# Altium footprint library SparkFun-Sensors.PCBLIB: 104 footprints (part 4 of 7)
Each footprint in its own frame and in the unit in brackets; x right, y up, seen from the top. Pads: shape width x height; smd on the part's side, far side on the other; paste and mask are expansions set on the pad; w line width, h text height; cw(c..) or ccw(c..) is an arc to the next point about the centre after c.
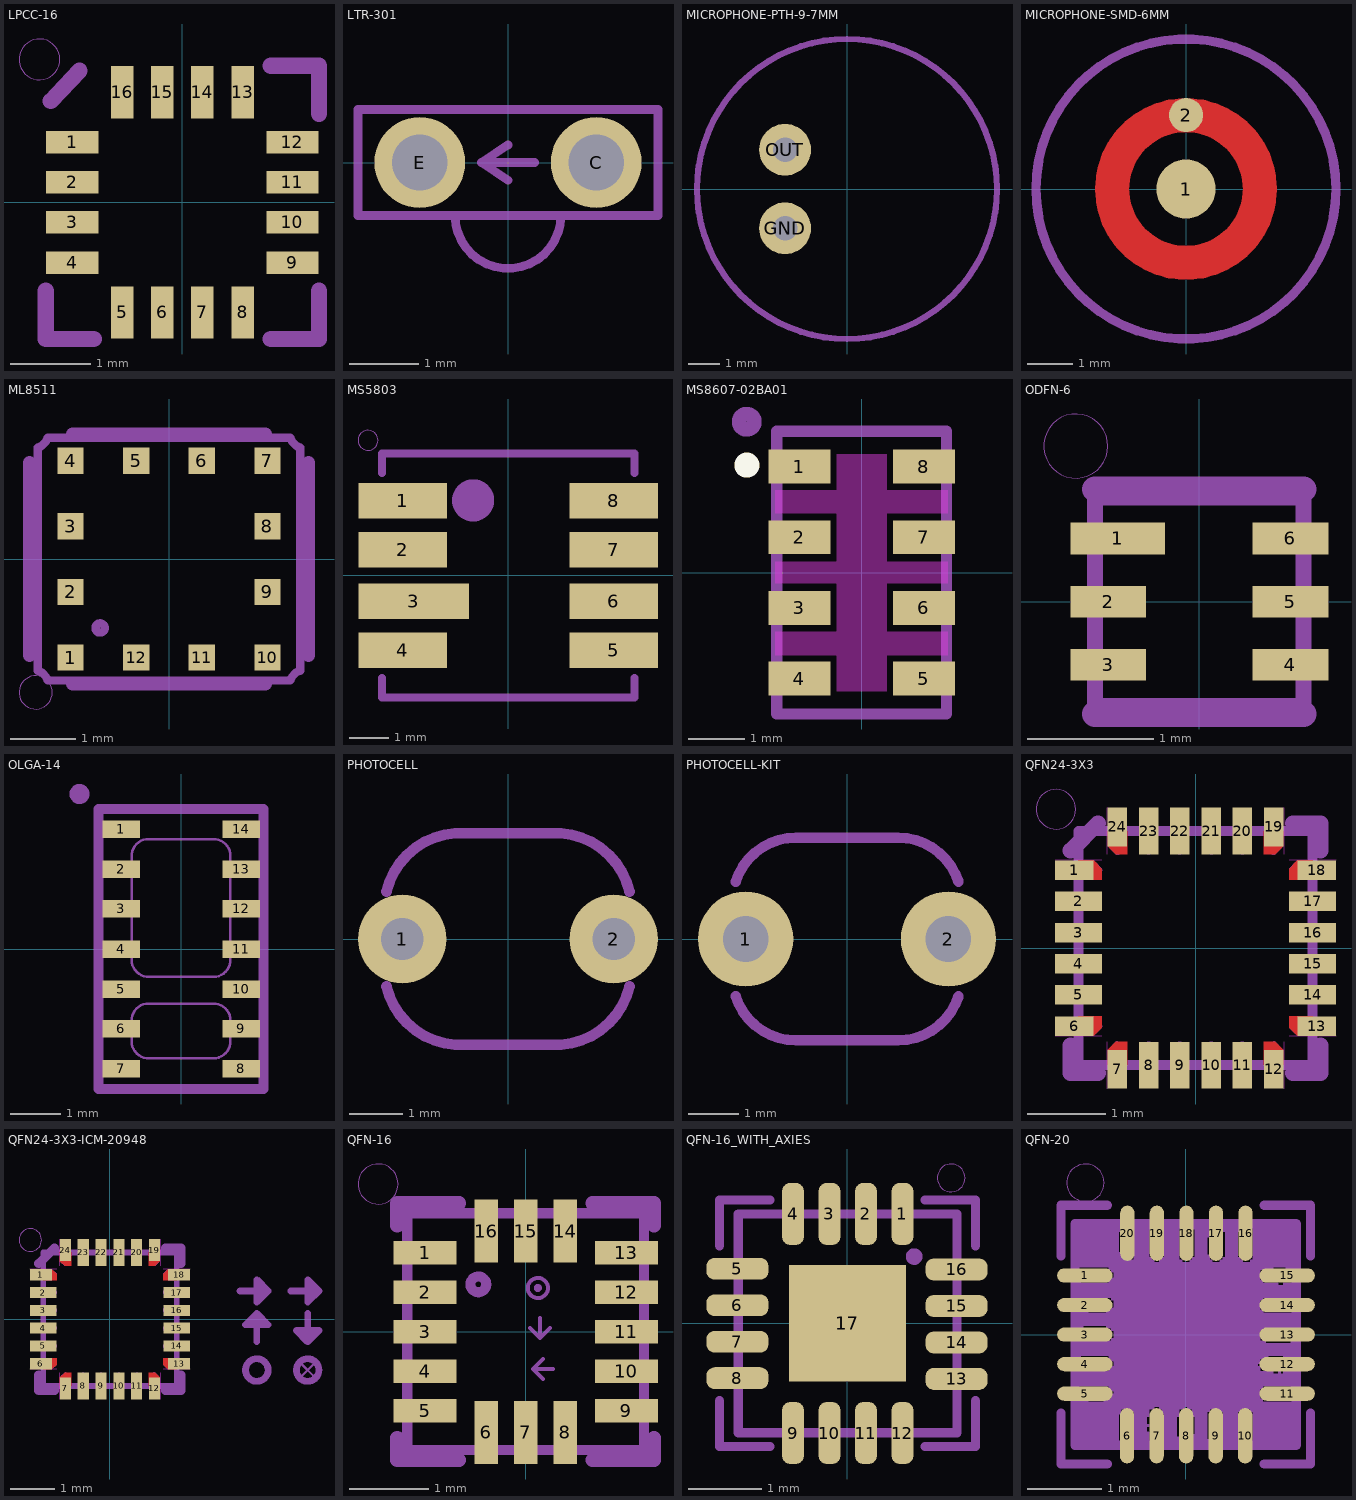
[diagram p3: the footprints below, top view; thin cyan lines are the x and y axes]

## LPCC-16 [mm]
pads (16):
  rect 0.65x0.28 smd: 1(-1.37,0.75) 2(-1.37,0.25) 3(-1.37,-0.25) 4(-1.37,-0.75) 9(1.37,-0.75) 10(1.37,-0.25) 11(1.37,0.25) 12(1.37,0.75)
  rect 0.28x0.65 smd: 5(-0.75,-1.37) 6(-0.25,-1.37) 7(0.25,-1.37) 8(0.75,-1.37) 13(0.75,1.37) 14(0.25,1.37) 15(-0.25,1.37) 16(-0.75,1.37)
tPlace:
  circle w0: c-1.778,1.778 r0.254
  lines w0.203: -1.7,-1.1 -1.7,-1.7 -1.1,-1.7 ; -1.635,1.26 -1.28,1.635 ; 1.1,-1.7 1.7,-1.7 1.7,-1.1 ; 1.1,1.7 1.7,1.7 1.7,1.1

## LTR-301 [mil]
pads (2):
  round 51.5 hole 31.5: C(50,0) E(-50,0)
tPlace:
  lines w5: 0,-10 -15,0 ; 0,10 -15,0 ; 15,0 -15,0 ; -30,-30 30,-30 ; -30,-30 -85,-30 -85,30 85,30 85,-30 30,-30 ; -30,-30 ccw(c0,-30) 30,-30

## MICROPHONE-PTH-9-7MM [mil]
pads (2):
  round 66 hole 31.5: GND(-78.74,-50) OUT(-78.74,50)
tPlace:
  circle w8: c0,0 r190.94
  text "-" at -54.57,-115.35 h77.5
bPlace:
  text "-" at -20.24,-115.35 h77.5

## MICROPHONE-SMD-6MM [mm]
pads (2):
  rrect100% 1.3x1.3 smd paste+0: 1(0,0)
  rrect100% 0.75x0.75 smd paste+0: 2(0.003,1.626)
Top:
  circle w0.75: c0,0 r1.625
Top Paste:
  circle w0.305: c0,0 r1.632
  circle w0.406: c0,0 r0.153
Top Solder:
  circle w0.965: c0,0 r1.627
tPlace:
  circle w0.203: c0,0 r3.3

## ML8511 [mm]
pads (12):
  rect 0.4x0.4 smd: 1(-1.5,-1.5) 2(-1.5,-0.5) 3(-1.5,0.5) 4(-1.5,1.5) 5(-0.5,1.5) 6(0.5,1.5) 7(1.5,1.5) 8(1.5,0.5) 9(1.5,-0.5) 10(1.5,-1.5) 11(0.5,-1.5) 12(-0.5,-1.5)
Top Solder:
  circle w0.2: c-1.05,-1.05 r0.05
tDocu:
  circle w0.127: c-1.05,-1.05 r0.07
  lines w0.127: -2,-1.7 -2,1.7 ccw(c-2.063,1.913) -1.85,1.85 1.85,1.85 ccw(c2.063,1.913) 2,1.7 2,-1.7 ccw(c2.063,-1.913) 1.85,-1.85 -1.85,-1.85 ccw(c-2.063,-1.913) -2,-1.7
tPlace:
  circle w0: c-2.032,-2.032 r0.254
  lines w0.203: -2.127,-1.47 -2.127,1.47 ; -1.47,-1.9 1.47,-1.9 ; -1.47,1.9 1.47,1.9 ; 2.127,-1.47 2.127,1.47

## MS5803 [mm]
pads (8):
  rect 2.25x0.9 smd: 1(-2.675,1.9) 2(-2.675,0.65) 4(-2.675,-1.9) 5(2.675,-1.9) 6(2.675,-0.65) 7(2.675,0.65) 8(2.675,1.9)
  rect 2.8x0.9 smd: 3(-2.4,-0.65)
tDocu:
  circle w0.813: c-0.889,1.905 r0.127
tPlace:
  circle w0: c-3.556,3.429 r0.254
  lines w0.203: -3.2,-2.6 -3.2,-3.1 3.2,-3.1 3.2,-2.6 ; -3.2,2.6 -3.2,3.1 3.2,3.1 3.2,2.6

## MS8607-02BA01 [mm]
pads (8):
  rect 1.1x0.6 smd: 1(-1.1,1.875) 2(-1.1,0.625) 3(-1.1,-0.625) 4(-1.1,-1.875) 5(1.1,-1.875) 6(1.1,-0.625) 7(1.1,0.625) 8(1.1,1.875)
Top keep-out:
  region: -0.445,2.095 0.445,2.095 0.445,1.46 1.524,1.46 1.524,1.048 0.445,1.048 0.445,0.191 1.524,0.191 1.524,-0.191 0.445,-0.191 0.445,-1.048 1.524,-1.048 1.524,-1.46 0.445,-1.46 0.445,-2.095 -0.445,-2.095 -0.445,-1.46 -1.524,-1.46 -1.524,-1.048 -0.445,-1.048 -0.445,-0.191 -1.524,-0.191 -1.524,0.191 -0.445,0.191 -0.445,1.048 -1.524,1.048 -1.524,1.46 -0.445,1.46
Top Overlay:
  circle w0.406: c-2.03,1.9 r0.018
tDocu:
  lines w0.2: -1.5,-2.5 1.5,-2.5 1.5,2.5 -1.5,2.5 -1.5,-2.5
tPlace:
  circle w0.254: c-2.032,2.667 r0.137
  lines w0.2: -1.5,-2.5 1.5,-2.5 ; -1.5,2.5 1.5,2.5

## ODFN-6 [mm]
pads (6):
  rect 0.75x0.25 smd: 1(-0.645,0.5)
  rect 0.6x0.25 smd: 2(-0.72,0) 3(-0.72,-0.5) 4(0.72,-0.5) 5(0.72,0) 6(0.72,0.5)
tDocu:
  lines w0.127: -0.825,-0.825 0.825,-0.825 0.825,0.825 -0.825,0.825 -0.825,-0.825
tPlace:
  circle w0: c-0.977,1.231 r0.254
  lines w0.203: -0.825,-0.888 0.825,-0.888 ; -0.825,0.888 0.825,0.888

## OLGA-14 [mm]
pads (14):
  rect 0.75x0.35 smd: 1(-1.2,2.4) 2(-1.2,1.6) 3(-1.2,0.8) 4(-1.2,0) 5(-1.2,-0.8) 6(-1.2,-1.6) 7(-1.2,-2.4) 8(1.2,-2.4) 9(1.2,-1.6) 10(1.2,-0.8) 11(1.2,0) 12(1.2,0.8) 13(1.2,1.6) 14(1.2,2.4)
tDocu:
  lines w0.05: -0.985,-1.9 -0.985,-1.39 cw(c-0.645,-1.431) -0.7,-1.093 0.69,-1.093 cw(c0.646,-1.433) 0.985,-1.38 0.985,-1.89 cw(c0.647,-1.846) 0.7,-2.183 -0.69,-2.183 cw(c-0.649,-1.845) -0.985,-1.9 ; -0.985,-0.27 -0.985,1.9 cw(c-0.644,1.859) -0.7,2.197 0.69,2.197 cw(c0.646,1.857) 0.985,1.91 0.985,-0.26 cw(c0.647,-0.217) 0.7,-0.553 -0.69,-0.553 cw(c-0.649,-0.215) -0.985,-0.27
tPlace:
  circle w0.2: c-2.032,3.1 r0.1
  lines w0.203: -1.65,-2.8 1.65,-2.8 1.65,2.8 -1.65,2.8 -1.65,-2.8

## PHOTOCELL [mil]
pads (2):
  round 66 hole 31.5: 1(-78.74,0) 2(78.74,0)
tPlace:
  lines w8: -90.55,-35.43 ccw(c-35.48,-22.25) -39.37,-78.74 39.37,-78.74 ccw(c35.48,-22.24) 90.55,-35.43 ; -90.55,35.43 cw(c-35.48,22.24) -39.37,78.74 39.37,78.74 cw(c35.48,22.25) 90.55,35.43

## PHOTOCELL-KIT [mil]
pads (2):
  round 74 hole 35.43: 1(-78.74,0) 2(78.74,0)
Top Solder:
  region: -79,-17.5 -82.4,-17.58 -88.75,-15.12 -93.67,-10.43 -96.42,-4.2 -96.5,-0.8 -96.59,2.77 -94.02,9.44 -89.1,14.61 -82.57,17.51 -79,17.6 -75.48,17.54 -69.02,14.74 -64.12,9.67 -61.54,3.12 -61.6,-0.4 -61.63,-3.83 -64.31,-10.15 -69.21,-14.96 -75.57,-17.53 -79,-17.5
  region: 79,-17.5 75.6,-17.58 69.25,-15.12 64.33,-10.43 61.58,-4.2 61.5,-0.8 61.41,2.77 63.98,9.44 68.9,14.61 75.43,17.51 79,17.6 82.52,17.54 88.98,14.74 93.88,9.67 96.46,3.12 96.4,-0.4 96.37,-3.83 93.69,-10.15 88.79,-14.96 82.43,-17.53 79,-17.5
Bottom Solder:
  region: -78.9,-37.5 -82.55,-37.55 -89.74,-36.22 -96.53,-33.51 -102.66,-29.54 -107.9,-24.44 -112.04,-18.42 -114.93,-11.7 -116.45,-4.55 -116.5,-0.9 -116.54,2.84 -115.17,10.19 -112.4,17.13 -108.32,23.39 -103.09,28.74 -96.93,32.97 -90.05,35.91 -82.74,37.46 -79,37.5 -75.26,37.45 -67.95,35.88 -61.09,32.92 -54.93,28.68 -49.72,23.31 -45.66,17.04 -42.9,10.09 -41.55,2.74 -41.6,-1 -41.64,-4.63 -43.13,-11.75 -45.99,-18.43 -50.09,-24.44 -55.29,-29.52 -61.37,-33.49 -68.12,-36.2 -75.27,-37.54 -78.9,-37.5
  region: 79.1,-37.5 75.45,-37.55 68.26,-36.22 61.47,-33.51 55.34,-29.54 50.1,-24.44 45.96,-18.42 43.07,-11.7 41.55,-4.55 41.5,-0.9 41.46,2.84 42.83,10.19 45.6,17.13 49.68,23.39 54.91,28.74 61.07,32.97 67.95,35.91 75.26,37.46 79,37.5 82.74,37.45 90.05,35.88 96.91,32.92 103.07,28.68 108.28,23.31 112.34,17.04 115.1,10.09 116.45,2.74 116.4,-1 116.36,-4.63 114.87,-11.75 112.01,-18.43 107.91,-24.44 102.71,-29.52 96.63,-33.49 89.88,-36.2 82.73,-37.54 79.1,-37.5
tPlace:
  lines w8: -86.55,-44.43 ccw(c-39.61,-29.48) -39.37,-78.74 39.37,-78.74 ccw(c39.61,-29.48) 86.55,-44.43 ; -86.55,44.43 cw(c-39.61,29.48) -39.37,78.74 39.37,78.74 cw(c39.61,29.48) 86.55,44.43

## QFN24-3X3 [mm]
pads (24):
  rect 0.495x0.25 smd paste+0: 1(-1.552,1) 6(-1.552,-1) 13(1.552,-1) 18(1.552,1)
  rect 0.6x0.25 smd paste+0: 2(-1.5,0.6) 3(-1.5,0.2) 4(-1.5,-0.2) 5(-1.5,-0.6) 14(1.5,-0.6) 15(1.5,-0.2) 16(1.5,0.2) 17(1.5,0.6)
  rect 0.25x0.495 smd paste+0: 7(-1,-1.552) 12(1,-1.552) 19(1,1.552) 24(-1,1.552)
  rect 0.25x0.6 smd paste+0: 8(-0.6,-1.5) 9(-0.2,-1.5) 10(0.2,-1.5) 11(0.6,-1.5) 20(0.6,1.5) 21(0.2,1.5) 22(-0.2,1.5) 23(-0.6,1.5)
Top:
  region: -1.5,1.125 -1.305,1.125 -1.2,1.02 -1.2,0.875 -1.5,0.875
  region: 1.125,-1.5 1.125,-1.305 1.02,-1.2 0.875,-1.2 0.875,-1.5
  region: -1.125,-1.5 -1.125,-1.305 -1.02,-1.2 -0.875,-1.2 -0.875,-1.5
  region: -1.5,-1.125 -1.305,-1.125 -1.2,-1.02 -1.2,-0.875 -1.5,-0.875
  region: 1.5,-1.125 1.305,-1.125 1.2,-1.02 1.2,-0.875 1.5,-0.875
  region: 1.5,1.125 1.305,1.125 1.2,1.02 1.2,0.875 1.5,0.875
  region: 1.125,1.5 1.125,1.305 1.02,1.2 0.875,1.2 0.875,1.5
  region: -1.125,1.5 -1.125,1.305 -1.02,1.2 -0.875,1.2 -0.875,1.5
Top keep-out:
  lines w0: -1.8,-1.13 -1.2,-1.13 ; -1.8,1.13 -1.2,1.13 ; -1.13,-1.8 -1.13,-1.2 ; -1.13,1.2 -1.13,1.8 ; 1.13,-1.8 1.13,-1.2 ; 1.13,1.2 1.13,1.8 ; 1.2,-1.13 1.8,-1.13 ; 1.2,1.13 1.8,1.13
Top Paste:
  region: -1.725,0.475 -1.725,0.725 -1.275,0.725 -1.275,0.475
  region: -1.725,0.875 -1.725,1.125 -1.275,1.125 -1.275,0.875
  region: -1.725,0.075 -1.725,0.325 -1.275,0.325 -1.275,0.075
  region: -1.725,-0.325 -1.725,-0.075 -1.275,-0.075 -1.275,-0.325
  region: -1.725,-0.725 -1.725,-0.475 -1.275,-0.475 -1.275,-0.725
  region: -1.725,-1.125 -1.725,-0.875 -1.275,-0.875 -1.275,-1.125
  region: -0.875,-1.725 -1.125,-1.725 -1.125,-1.275 -0.875,-1.275
  region: -0.475,-1.725 -0.725,-1.725 -0.725,-1.275 -0.475,-1.275
  region: -0.075,-1.725 -0.325,-1.725 -0.325,-1.275 -0.075,-1.275
  region: 0.325,-1.725 0.075,-1.725 0.075,-1.275 0.325,-1.275
  region: 0.725,-1.725 0.475,-1.725 0.475,-1.275 0.725,-1.275
  region: 1.125,-1.725 0.875,-1.725 0.875,-1.275 1.125,-1.275
  region: 1.725,-0.875 1.725,-1.125 1.275,-1.125 1.275,-0.875
  region: 1.725,-0.475 1.725,-0.725 1.275,-0.725 1.275,-0.475
  region: 1.725,0.325 1.725,0.075 1.275,0.075 1.275,0.325
  region: 1.725,-0.075 1.725,-0.325 1.275,-0.325 1.275,-0.075
  region: 1.725,0.725 1.725,0.475 1.275,0.475 1.275,0.725
  region: 1.725,1.125 1.725,0.875 1.275,0.875 1.275,1.125
  region: 0.875,1.725 1.125,1.725 1.125,1.275 0.875,1.275
  region: 0.475,1.725 0.725,1.725 0.725,1.275 0.475,1.275
  region: 0.075,1.725 0.325,1.725 0.325,1.275 0.075,1.275
  region: -0.325,1.725 -0.075,1.725 -0.075,1.275 -0.325,1.275
  region: -0.725,1.725 -0.475,1.725 -0.475,1.275 -0.725,1.275
  region: -1.125,1.725 -0.875,1.725 -0.875,1.275 -1.125,1.275
Top Solder:
  region: -1.203,0.773 -1.203,1.226 -1.099,1.226 -1.099,0.773
  region: -0.773,-1.203 -1.226,-1.203 -1.226,-1.099 -0.773,-1.099
  region: 1.203,-0.773 1.203,-1.226 1.099,-1.226 1.099,-0.773
  region: 0.773,1.203 1.226,1.203 1.226,1.099 0.773,1.099
  region: -1.226,1.203 -0.773,1.203 -0.773,1.099 -1.226,1.099
  region: -1.203,-1.226 -1.203,-0.773 -1.099,-0.773 -1.099,-1.226
  region: 1.226,-1.203 0.773,-1.203 0.773,-1.099 1.226,-1.099
  region: 1.203,1.226 1.203,0.773 1.099,0.773 1.099,1.226
tDocu:
  drawing of 28 lines, arcs and shapes, not listed
tPlace:
  circle w0: c-1.79,1.78 r0.254
  lines w0.203: -1.6,-1.25 -1.6,-1.6 -1.25,-1.6 ; -1.6,1.25 -1.25,1.6 ; 1.25,-1.6 1.6,-1.6 1.6,-1.25 ; 1.25,1.6 1.6,1.6 1.6,1.25

## QFN24-3X3-ICM-20948 [mm]
pads (24):
  rect 0.495x0.25 smd paste+0: 1(-1.552,1) 6(-1.552,-1) 13(1.552,-1) 18(1.552,1)
  rect 0.6x0.25 smd paste+0: 2(-1.5,0.6) 3(-1.5,0.2) 4(-1.5,-0.2) 5(-1.5,-0.6) 14(1.5,-0.6) 15(1.5,-0.2) 16(1.5,0.2) 17(1.5,0.6)
  rect 0.25x0.495 smd paste+0: 7(-1,-1.552) 12(1,-1.552) 19(1,1.552) 24(-1,1.552)
  rect 0.25x0.6 smd paste+0: 8(-0.6,-1.5) 9(-0.2,-1.5) 10(0.2,-1.5) 11(0.6,-1.5) 20(0.6,1.5) 21(0.2,1.5) 22(-0.2,1.5) 23(-0.6,1.5)
Top:
  region: -1.5,1.125 -1.305,1.125 -1.2,1.02 -1.2,0.875 -1.5,0.875
  region: 1.125,-1.5 1.125,-1.305 1.02,-1.2 0.875,-1.2 0.875,-1.5
  region: -1.125,-1.5 -1.125,-1.305 -1.02,-1.2 -0.875,-1.2 -0.875,-1.5
  region: -1.5,-1.125 -1.305,-1.125 -1.2,-1.02 -1.2,-0.875 -1.5,-0.875
  region: 1.5,-1.125 1.305,-1.125 1.2,-1.02 1.2,-0.875 1.5,-0.875
  region: 1.5,1.125 1.305,1.125 1.2,1.02 1.2,0.875 1.5,0.875
  region: 1.125,1.5 1.125,1.305 1.02,1.2 0.875,1.2 0.875,1.5
  region: -1.125,1.5 -1.125,1.305 -1.02,1.2 -0.875,1.2 -0.875,1.5
Top keep-out:
  lines w0: -1.8,-1.13 -1.2,-1.13 ; -1.8,1.13 -1.2,1.13 ; -1.13,-1.8 -1.13,-1.2 ; -1.13,1.2 -1.13,1.8 ; 1.13,-1.8 1.13,-1.2 ; 1.13,1.2 1.13,1.8 ; 1.2,-1.13 1.8,-1.13 ; 1.2,1.13 1.8,1.13
Top Paste:
  region: -1.725,0.475 -1.725,0.725 -1.275,0.725 -1.275,0.475
  region: -1.725,0.875 -1.725,1.125 -1.275,1.125 -1.275,0.875
  region: -1.725,0.075 -1.725,0.325 -1.275,0.325 -1.275,0.075
  region: -1.725,-0.325 -1.725,-0.075 -1.275,-0.075 -1.275,-0.325
  region: -1.725,-0.725 -1.725,-0.475 -1.275,-0.475 -1.275,-0.725
  region: -1.725,-1.125 -1.725,-0.875 -1.275,-0.875 -1.275,-1.125
  region: -0.875,-1.725 -1.125,-1.725 -1.125,-1.275 -0.875,-1.275
  region: -0.475,-1.725 -0.725,-1.725 -0.725,-1.275 -0.475,-1.275
  region: -0.075,-1.725 -0.325,-1.725 -0.325,-1.275 -0.075,-1.275
  region: 0.325,-1.725 0.075,-1.725 0.075,-1.275 0.325,-1.275
  region: 0.725,-1.725 0.475,-1.725 0.475,-1.275 0.725,-1.275
  region: 1.125,-1.725 0.875,-1.725 0.875,-1.275 1.125,-1.275
  region: 1.725,-0.875 1.725,-1.125 1.275,-1.125 1.275,-0.875
  region: 1.725,-0.475 1.725,-0.725 1.275,-0.725 1.275,-0.475
  region: 1.725,0.325 1.725,0.075 1.275,0.075 1.275,0.325
  region: 1.725,-0.075 1.725,-0.325 1.275,-0.325 1.275,-0.075
  region: 1.725,0.725 1.725,0.475 1.275,0.475 1.275,0.725
  region: 1.725,1.125 1.725,0.875 1.275,0.875 1.275,1.125
  region: 0.875,1.725 1.125,1.725 1.125,1.275 0.875,1.275
  region: 0.475,1.725 0.725,1.725 0.725,1.275 0.475,1.275
  region: 0.075,1.725 0.325,1.725 0.325,1.275 0.075,1.275
  region: -0.325,1.725 -0.075,1.725 -0.075,1.275 -0.325,1.275
  region: -0.725,1.725 -0.475,1.725 -0.475,1.275 -0.725,1.275
  region: -1.125,1.725 -0.875,1.725 -0.875,1.275 -1.125,1.275
Top Solder:
  region: -1.203,0.773 -1.203,1.226 -1.099,1.226 -1.099,0.773
  region: -0.773,-1.203 -1.226,-1.203 -1.226,-1.099 -0.773,-1.099
  region: 1.203,-0.773 1.203,-1.226 1.099,-1.226 1.099,-0.773
  region: 0.773,1.203 1.226,1.203 1.226,1.099 0.773,1.099
  region: -1.226,1.203 -0.773,1.203 -0.773,1.099 -1.226,1.099
  region: -1.203,-1.226 -1.203,-0.773 -1.099,-0.773 -1.099,-1.226
  region: 1.226,-1.203 0.773,-1.203 0.773,-1.099 1.226,-1.099
  region: 1.203,1.226 1.203,0.773 1.099,0.773 1.099,1.226
tDocu:
  drawing of 48 lines, arcs and shapes, not listed
  text "AG" at 2.921,1.143 h0.43
  text "X" at 2.286,0.381 h0.43
  text "Y" at 2.286,-0.508 h0.43
  text "Z" at 2.286,-1.397 h0.43
  text "M" at 4.318,1.143 h0.43
tPlace:
  circle w0: c-1.79,1.78 r0.254
  lines w0.203: -1.6,-1.25 -1.6,-1.6 -1.25,-1.6 ; -1.6,1.25 -1.25,1.6 ; 1.25,-1.6 1.6,-1.6 1.6,-1.25 ; 1.25,1.6 1.6,1.6 1.6,1.25

## QFN-16 [mil]
pads (16):
  rect 31.5x11.81 smd: 1(-50.2,39.37) 2(-50.2,19.69) 3(-50.2,0) 4(-50.2,-19.69) 5(-50.2,-39.37) 9(50.2,-39.37) 10(50.2,-19.69) 11(50.2,0) 12(50.2,19.69) 13(50.2,39.37)
  rect 11.81x31.5 smd: 6(-19.69,-50.2) 7(0,-50.2) 8(19.69,-50.2) 14(19.69,50.2) 15(0,50.2) 16(-19.69,50.2)
tDocu:
  circle w5: c-23.62,23.62 r3.94
  circle w2: c6.06,21.81 r5
  circle w2: c6.06,21.81 r1
  region: -4.92,-55.12 -4.92,-36.73 4.92,-36.73 4.92,-55.12
  region: 14.76,-55.12 14.76,-36.73 24.61,-36.73 24.61,-55.12
  region: -24.61,-55.12 -24.61,-36.73 -14.76,-36.73 -14.76,-55.12
  region: 4.92,55.12 4.92,36.73 -4.92,36.73 -4.92,55.12
  region: 24.61,55.12 24.61,36.73 14.76,36.73 14.76,55.12
  region: -14.76,55.12 -14.76,36.73 -24.61,36.73 -24.61,55.12
  region: -55.12,-4.92 -55.12,4.92 -36.73,4.92 -36.73,-4.92
  region: -55.12,14.76 -55.12,24.61 -36.73,24.61 -36.73,14.76
  region: -55.12,34.45 -55.12,44.29 -36.73,44.29 -36.73,34.45
  region: -55.12,-24.61 -55.12,-14.76 -36.73,-14.76 -36.73,-24.61
  region: -55.12,-44.29 -55.12,-34.45 -36.73,-34.45 -36.73,-44.29
  region: 55.12,4.92 55.12,-4.92 36.73,-4.92 36.73,4.92
  region: 55.12,24.61 55.12,14.76 36.73,14.76 36.73,24.61
  region: 55.12,44.29 55.12,34.45 36.73,34.45 36.73,44.29
  region: 55.12,-14.76 55.12,-24.61 36.73,-24.61 36.73,-14.76
  region: 55.12,-34.45 55.12,-44.29 36.73,-44.29 36.73,-34.45
  lines w2: 2.13,1.81 7.13,-3.19 ; 7.13,6.81 7.13,-3.19 ; 8.62,-23.62 3.62,-18.62 ; 8.62,-13.62 3.62,-18.62 ; 12.13,1.81 7.13,-3.19 ; 13.62,-18.62 3.62,-18.62
  lines w5: -59.06,-59.06 -59.06,59.06 59.06,59.06 59.06,-59.06 -59.06,-59.06
  text "X" at -11.81,-23.62 h18.6
  text "Y" at -11.81,-3.94 h18.6
  text "Z" at -11.81,15.75 h18.6
tPlace:
  circle w0: c-73.62,73.62 r10
  lines w7: -64.06,-52.88 -64.06,-64.06 -33.2,-64.06 ; -64.06,52.88 -64.06,64.06 -33.2,64.06 ; 33.2,-64.06 64.06,-64.06 64.06,-52.88 ; 33.2,64.06 64.06,64.06 64.06,52.88

## QFN-16_WITH_AXIES [mil]
pads (17):
  rrect75% 11.81x33.46 smd: 1(29.69,58.98) 2(10,58.98) 3(-9.69,58.98) 4(-29.37,58.98) 9(-29.37,-59.29) 10(-9.69,-59.29) 11(10,-59.29) 12(29.69,-59.29)
  rrect75% 33.46x11.81 smd: 5(-59.37,29.37) 6(-59.37,9.69) 7(-59.37,-10) 8(-59.37,-29.69) 13(58.9,-30.08) 14(58.9,-10.39) 15(58.9,9.29) 16(58.9,28.98)
  rect 62.99x62.99 smd paste+0: 17(0,0)
Top Paste:
  region: -19.69,11.81 -19.69,19.69 -11.81,19.69 -11.81,11.81
  region: -19.69,-19.69 -19.69,-11.81 -11.81,-11.81 -11.81,-19.69
  region: 11.81,-19.69 11.81,-11.81 19.69,-11.81 19.69,-19.69
  region: 11.81,11.81 11.81,19.69 19.69,19.69 19.69,11.81
tDocu:
  circle w5: c36.04,35.93 r1.97
  circle w2: c8.19,22.06 r5
  circle w2: c8.19,22.06 r1
  lines w2: 3.87,1.19 8.87,6.19 ; 8.62,-23.62 3.62,-18.62 ; 8.62,-13.62 3.62,-18.62 ; 8.87,-3.81 8.87,6.19 ; 13.62,-18.62 3.62,-18.62 ; 13.87,1.19 8.87,6.19
  lines w5: -59,-59.11 59.11,-59.11 59.11,59 -59,59 -59,-59.11
  text "X" at -11.81,-4.62 h18.6
  text "Y" at -11.81,-24.94 h18.6
  text "Z" at -11.81,15.75 h18.6
tPlace:
  circle w0: c56.04,78.43 r7.5
  lines w5: -69,-41.93 -69,-66.61 -41.82,-66.61 ; -69,41.82 -69,66.5 -41.82,66.5 ; 41.93,-66.61 69.11,-66.61 69.11,-41.93 ; 41.93,66.5 69.11,66.5 69.11,41.82

## QFN-20 [mil]
pads (20):
  rrect100% 29.53x7.68 smd: 1(-53.82,31.5) 2(-53.82,15.75) 3(-53.82,0) 4(-53.82,-15.75) 5(-53.82,-31.5) 11(54.12,-31.5) 12(54.12,-15.75) 13(54.12,0) 14(54.12,15.75) 15(54.12,31.5)
  rrect100% 7.68x29.53 smd: 6(-31.3,-54.02) 7(-15.55,-54.02) 8(0.2,-54.02) 9(15.95,-54.02) 10(31.7,-54.02) 16(31.9,54.02) 17(16.15,54.02) 18(0.4,54.02) 19(-15.35,54.02) 20(-31.1,54.02)
Top Solder:
  region: -66,-67 -66,67 67,67 67,-67
tDocu:
  circle w5: c-25.98,25.98 r1.97
  lines w5: -59.06,-59.06 -59.06,59.06 59.06,59.06 59.06,-59.06 -59.06,-59.06
tPlace:
  circle w0: c-53.48,80.98 r10
  lines w5: -66.56,-41.87 -66.56,-69.06 -41.87,-69.06 ; -66.56,41.87 -66.56,69.06 -41.87,69.06 ; 41.87,-69.06 66.56,-69.06 66.56,-41.87 ; 41.87,69.06 66.56,69.06 66.56,41.87
Mech68:
  drawing of 245 lines, arcs and shapes, not listed